# EAGLE library part ROCKBLOCK (library potbot_v7)
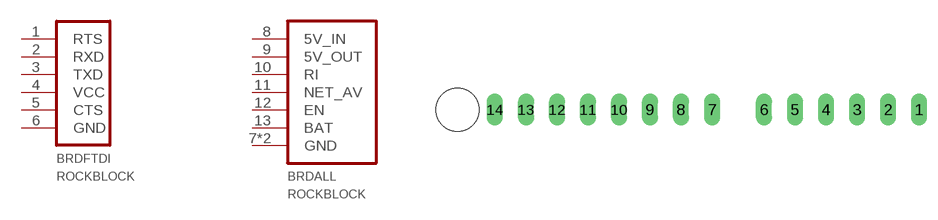
[diagram p0: symbol with the pads of ROCKBLOCK; footprint ROCKBLOCK]

Designator prefix BRD; gates ALL=ROCKBLOCK-ALL FTDI=ROCKBLOCK-FTDI

## ROCKBLOCK  [ROCKBLOCK]
1  FTDI:RTS  in
2  FTDI:RXD  out
3  FTDI:TXD  in
4  FTDI:VCC  pwr
5  FTDI:CTS  out
6  FTDI:GND  pwr
7  ALL:GND  pwr
8  ALL:5V_IN  pwr
9  ALL:5V_OUT  pwr
10  ALL:RI  out
11  ALL:NET_AV  out
12  ALL:EN  in
13  ALL:BAT  pwr
14  ALL:GND  pwr

## Footprint ROCKBLOCK (pad centres in mm)
drill 0.8 long: 1 40.25,2.5; 2 37.71,2.5; 3 35.17,2.5; 4 32.63,2.5; 5 30.09,2.5; 6 27.55,2.5; 7 23.3,2.5; 8 20.76,2.5; 9 18.22,2.5; 10 15.68,2.5; 11 13.14,2.5; 12 10.6,2.5; 13 8.06,2.5; 14 5.52,2.5
hole 3.5 at 2.45,2.5